# Altium schematic symbol library CAP,Cer,10nF,630VDC,X7R,Radial.Schlib: 1 symbol
Pins are listed as number, name and electrical type; pins without a type are passive.

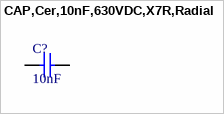
[diagram p0: symbol CAP,Cer,10nF,630VDC,X7R,Radial]

## CAP,Cer,10nF,630VDC,X7R,Radial
designator C?, comment 10nF
10000pF±10% 630V Ceramic Capacitor X7R Radial
pins: 1, 2